# Altium footprint library PCB - CONNECTOR - WURTH 7461001.PCBLIB: 1 footprints
Each footprint in its own frame and in the unit in brackets; x right, y up, seen from the top. Pads: shape width x height; smd on the part's side, far side on the other; paste and mask are expansions set on the pad; w line width, h text height; cw(c..) or ccw(c..) is an arc to the next point about the centre after c.
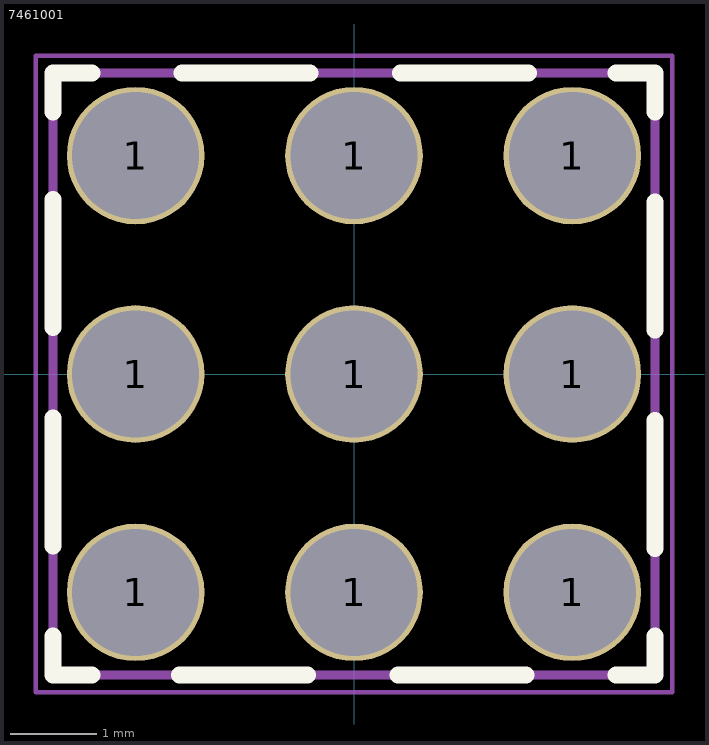
[diagram p0: the footprint, top view; thin cyan lines are the x and y axes]

## 7461001 [mm] "M5, thread 8mm"
height 12
pads (9):
  round 1.6 hole 1.475: 1(-2.54,-2.54) 1(-2.54,0) 1(-2.54,2.54) 1(0,-2.54) 1(0,0) 1(0,2.54) 1(2.54,-2.54) 1(2.54,0) 1(2.54,2.54)
Top Overlay:
  lines w0.2: -3.5,-3.05 -3.5,-3.5 -3.05,-3.5 ; -3.5,-2 -3.5,-0.51 ; -3.5,0.54 -3.5,2.03 ; -3.5,3.05 -3.5,3.5 -3.05,3.5 ; -2.03,-3.5 -0.54,-3.5 ; -2,3.5 -0.51,3.5 ; 0.51,-3.5 2,-3.5 ; 0.54,3.5 2.03,3.5 ; 3.05,-3.5 3.5,-3.5 3.5,-3.05 ; 3.05,3.5 3.5,3.5 3.5,3.05 ; 3.5,-2.03 3.5,-0.54 ; 3.5,0.51 3.5,2
Top Assembly (Mech5):
  lines w0.1: -3.5,-3.5 3.5,-3.5 3.5,3.5 -3.5,3.5 -3.5,-3.5
  text ".Designator" at -2.286,3.937 h1.52
Top Courtyard:
  lines w0.05: -3.7,-3.7 3.7,-3.7 3.7,3.7 -3.7,3.7 -3.7,-3.7
3D body "7461001.stp": height 12, standoff -3.5, extent -3.5,-3.5 3.5,3.5